# Altium schematic symbol library Cp1206.Schlib: 1 symbol
Pins are listed as number, name and electrical type; pins without a type are passive.

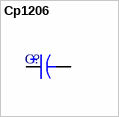
[diagram p0: symbol Cp1206]

## Cp1206
designator C?  (value not drawn)
1206 Polarized Chip Capacitor - Standard
pins: 1, 2